# EAGLE library part OPA547F (library burr-brown)
High-Voltage, High-Current Operational Amplifier
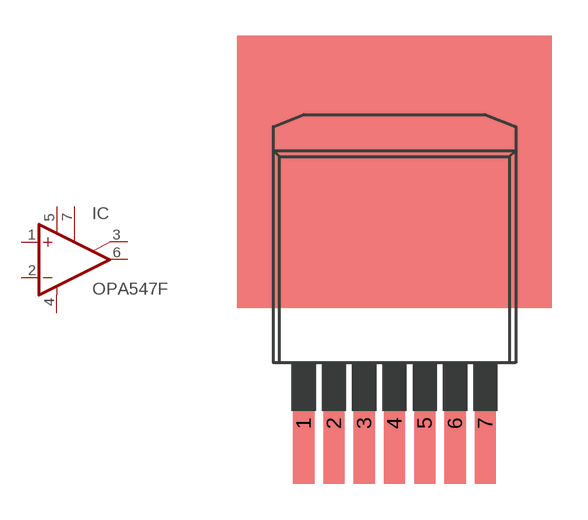
[diagram p229: symbol with the pads of DD-7; footprint DD-7]

Designator prefix IC

## OPA547F  [DD-7]
1  +IN  in
2  -IN  in
3  ILIM  in
4  V-  pwr
5  V+  pwr
6  OUT  out
7  E/S

## Footprint DD-7 (pad centres in mm)
smd 0.889 x 5.08: 1 -3.81,-6.985; 2 -2.54,-6.985; 3 -1.27,-6.985; 4 0,-6.985; 5 1.27,-6.985; 6 2.54,-6.985; 7 3.81,-6.985